# Altium footprint library VCNL4040M3OE.PcbLib: 2 footprints
Each footprint in its own frame and in the unit in brackets; x right, y up, seen from the top. Pads: shape width x height; smd on the part's side, far side on the other; paste and mask are expansions set on the pad; w line width, h text height; cw(c..) or ccw(c..) is an arc to the next point about the centre after c.
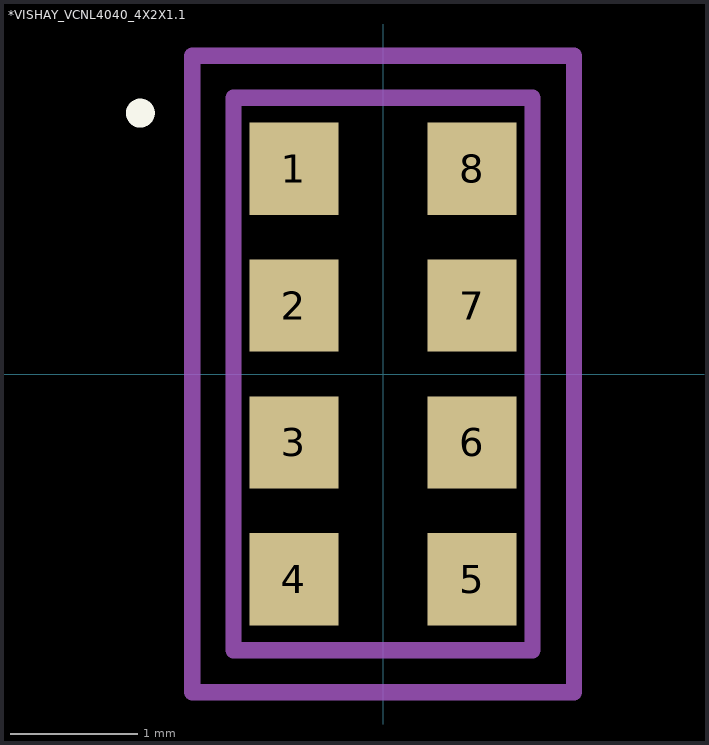
[diagram p0: the footprints below, top view; thin cyan lines are the x and y axes]

## *VISHAY_VCNL4040_4X2X1.1 [mm]
pads (8):
  rect 0.7x0.725 smd: 1(-0.7,1.613) 2(-0.7,0.537) 3(-0.7,-0.537) 4(-0.7,-1.613) 5(0.7,-1.613) 6(0.7,-0.537) 7(0.7,0.537) 8(0.7,1.613)
Top Overlay:
  circle w0.127: c-1.907,2.05 r0.05
Mechanical 13:
  lines w0.127: -1.175,-2.17 -1.175,2.17 ; -1.175,-2.17 1.175,-2.17 ; -1.175,-2.17 -1.175,2.17 ; -1.175,-2.17 1.175,-2.17 ; -1.175,2.17 1.175,2.17 ; -1.175,2.17 1.175,2.17 ; 1.175,-2.17 1.175,2.17 ; 1.175,-2.17 1.175,2.17
Mechanical 15:
  lines w0.127: -1.5,-2.5 -1.5,2.5 1.5,2.5 1.5,-2.5 -1.5,-2.5

## PCBComponent_1 [mm]